# Altium integrated library SIT1534AI-H4-DCC-04.096E.IntLib: 1 symbol
Pins are listed as number, name and electrical type; pins without a type are passive.

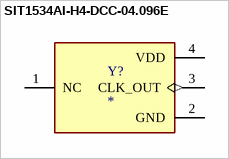
[diagram p0: symbol SIT1534AI-H4-DCC-04.096E]

## SIT1534AI-H4-DCC-04.096E
designator Y?
MP: SIT1534AI-H4-DCC-04.096E; Package: None; Price: None; Value: *; Availability: Unavailable
footprint OSC_SIT1534AI-H4-DCC-04.096E
pins: 1 NC, 2 GND (power), 3 CLK_OUT (out), 4 VDD (power)